# Altium footprint library LOC111P.PcbLib: 1 footprints
Each footprint in its own frame and in the unit in brackets; x right, y up, seen from the top. Pads: shape width x height; smd on the part's side, far side on the other; paste and mask are expansions set on the pad; w line width, h text height; cw(c..) or ccw(c..) is an arc to the next point about the centre after c.
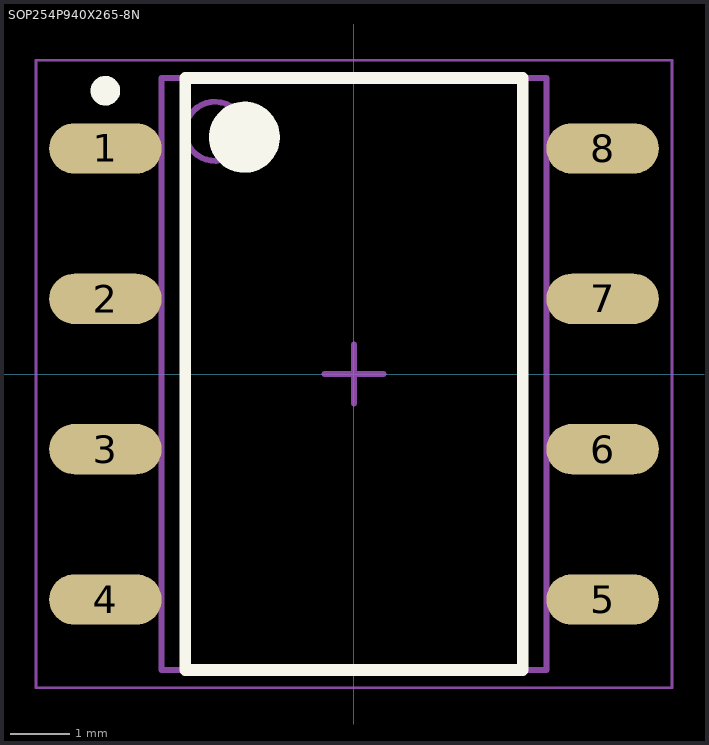
[diagram p0: the footprint, top view; thin cyan lines are the x and y axes]

## SOP254P940X265-8N [mm] "SOP, 8-Leads, Body 9.65x6.35mm, Pitch 2.54mm, IPC Medium Density"
height 2.65
pads (8):
  oval 1.9x0.85 smd: 1(-4.2,3.81) 2(-4.2,1.27) 3(-4.2,-1.27) 4(-4.2,-3.81) 5(4.2,-3.81) 6(4.2,-1.27) 7(4.2,1.27) 8(4.2,3.81)
Top Overlay:
  circle w0.25: c-4.2,4.785 r0.125
  circle w0.6: c-1.85,4 r0.3
  lines w0.2: -2.85,-5 -2.85,5 2.85,5 2.85,-5 -2.85,-5
Mechanical 13:
  circle w0.1: c-2.35,4.1 r0.5
  lines w0.1: -3.25,-5 -3.25,5 3.25,5 3.25,-5 -3.25,-5
Mechanical 15:
  lines w0.05: -5.375,-5.3 -5.375,5.3 5.375,5.3 5.375,-5.3 -5.375,-5.3
  lines w0.1: -0.5,0 0.5,0 ; 0,-0.5 0,0.5
3D body: height 2.65, standoff 0.1, extent -3.25,-5 3.25,5